# EAGLE library part MICROSD (library UPenn)
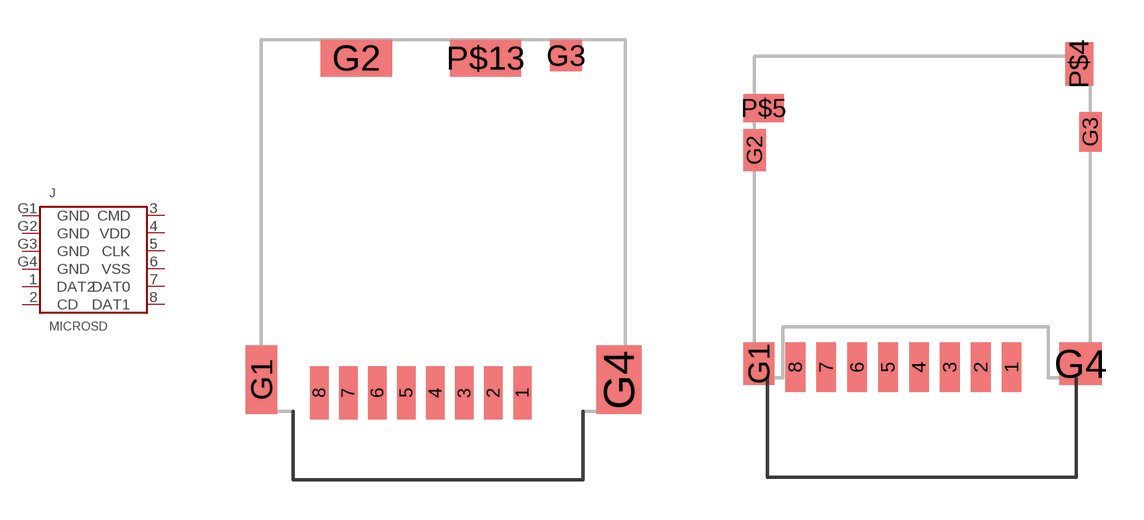
[diagram p5: symbol with the pads of MICROSD_HINGE; footprints MICROSD_HINGE, MICROSD_PUSHPULL]

Designator prefix J

## MICROSD_HINGE  [MICROSD_HINGE]
1  DAT2
2  CD
3  CMD
4  VDD
5  CLK
6  VSS
7  DAT0
8  DAT1
G1  GND
G2  GND
G3  GND
G4  GND

## MICROSD_PUSHPULL  [MICROSD_PUSHPULL]
Pads as for MICROSD_HINGE

## Footprint MICROSD_HINGE (pad centres in mm)
smd 0.7 x 2: 1 3.2,-0.5; 2 2.1,-0.5; 3 1,-0.5; 4 -0.1,-0.5; 5 -1.2,-0.5; 6 -2.3,-0.5; 7 -3.4,-0.5; 8 -4.5,-0.5
smd 1.2 x 2.6: G1 -6.7,0
smd 2.7 x 1.4: G2 -3.1,12.2; P$13 1.8,12.2
smd 1.2 x 1.2: G3 4.85,12.3
smd 1.7 x 2.6: G4 6.85,0

## Footprint MICROSD_PUSHPULL (pad centres in mm)
smd 0.7 x 1.75: 1 3.2,-0.875; 2 2.1,-0.875; 3 1,-0.875; 4 -0.1,-0.875; 5 -1.2,-0.875; 6 -2.3,-0.875; 7 -3.4,-0.875; 8 -4.5,-0.875
smd 1.1 x 1.5: G1 -5.8,-0.75
smd 0.8 x 1.5: G2 -5.95,6.85
smd 0.8 x 1.4: G3 6,7.5
smd 1.5 x 1.5: G4 5.65,-0.75
smd 1 x 1.55: P$4 5.6,9.925
smd 1.45 x 1: P$5 -5.625,8.35